# Altium schematic symbol library CAP,Cer,100nF,50VDC,Z5U,Radial.Schlib: 1 symbol
Pins are listed as number, name and electrical type; pins without a type are passive.

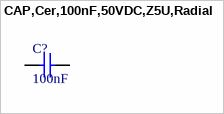
[diagram p0: symbol CAP,Cer,100nF,50VDC,Z5U,Radial]

## CAP,Cer,100nF,50VDC,Z5U,Radial
designator C?, comment 100nF
0.1µF ±20% 50V Ceramic Capacitor Z5U Radial
pins: 1, 2